# Altium footprint library chip.PcbLib: 2 footprints
Each footprint in its own frame and in the unit in brackets; x right, y up, seen from the top. Pads: shape width x height; smd on the part's side, far side on the other; paste and mask are expansions set on the pad; w line width, h text height; cw(c..) or ccw(c..) is an arc to the next point about the centre after c.
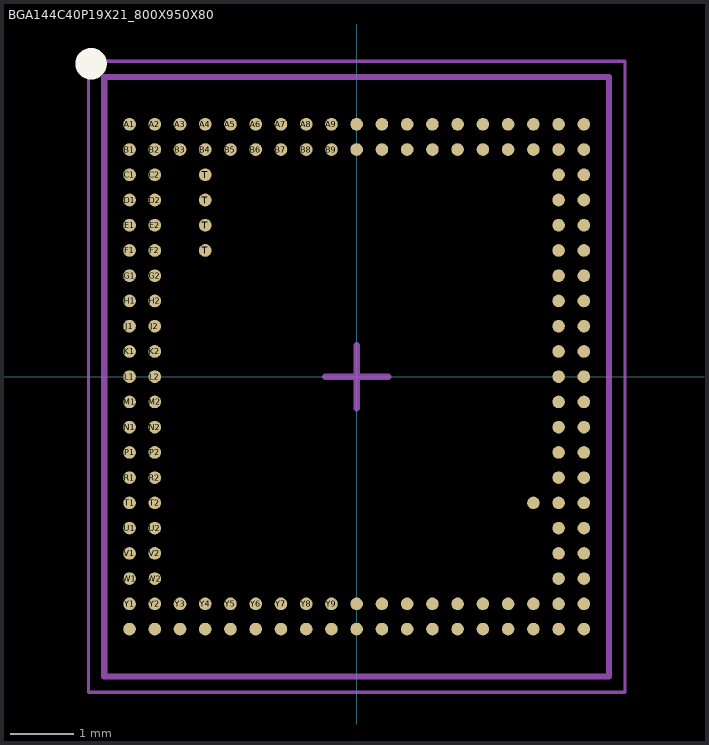
[diagram p0: the footprints below, top view; thin cyan lines are the x and y axes]

## 32EP16-M4FTC32-GA68 [mm]

## BGA144C40P19X21_800X950X80 [mm] "BGA, 144-Leads, Body 8.00x9.50mmx0.80mm, Pitch 0.40mm"
height 0.8
pads (149):
  round 0.2 smd: A1(-3.6,4) A2(-3.2,4) A3(-2.8,4) A4(-2.4,4) A5(-2,4) A6(-1.6,4) A7(-1.2,4) A8(-0.8,4) A9(-0.4,4) A10(0,4) A11(0.4,4) A12(0.8,4) A13(1.2,4) A14(1.6,4) A15(2,4) A16(2.4,4) A17(2.8,4) A18(3.2,4) A19(3.6,4) AA1(-3.6,-4) AA2(-3.2,-4) AA3(-2.8,-4) AA4(-2.4,-4) AA5(-2,-4) AA6(-1.6,-4) AA7(-1.2,-4) AA8(-0.8,-4) AA9(-0.4,-4) AA10(0,-4) AA11(0.4,-4) AA12(0.8,-4) AA13(1.2,-4) AA14(1.6,-4) AA15(2,-4) AA16(2.4,-4) AA17(2.8,-4) AA18(3.2,-4) AA19(3.6,-4) B1(-3.6,3.6) B2(-3.2,3.6) B3(-2.8,3.6) B4(-2.4,3.6) B5(-2,3.6) B6(-1.6,3.6) B7(-1.2,3.6) B8(-0.8,3.6) B9(-0.4,3.6) B10(0,3.6) B11(0.4,3.6) B12(0.8,3.6) B13(1.2,3.6) B14(1.6,3.6) B15(2,3.6) B16(2.4,3.6) B17(2.8,3.6) B18(3.2,3.6) B19(3.6,3.6) C1(-3.6,3.2) C2(-3.2,3.2) C18(3.2,3.2) C19(3.6,3.2) D1(-3.6,2.8) D2(-3.2,2.8) D18(3.2,2.8) D19(3.6,2.8) E1(-3.6,2.4) E2(-3.2,2.4) E18(3.2,2.4) E19(3.6,2.4) F1(-3.6,2) F2(-3.2,2) F18(3.2,2) F19(3.6,2) G1(-3.6,1.6) G2(-3.2,1.6) G18(3.2,1.6) G19(3.6,1.6) H1(-3.6,1.2) H2(-3.2,1.2) H18(3.2,1.2) H19(3.6,1.2) J1(-3.6,0.8) J2(-3.2,0.8) J18(3.2,0.8) J19(3.6,0.8) K1(-3.6,0.4) K2(-3.2,0.4) K18(3.2,0.4) K19(3.6,0.4) L1(-3.6,0) L2(-3.2,0) L18(3.2,0) L19(3.6,0) M1(-3.6,-0.4) M2(-3.2,-0.4) M18(3.2,-0.4) M19(3.6,-0.4) N1(-3.6,-0.8) N2(-3.2,-0.8) N18(3.2,-0.8) N19(3.6,-0.8) P1(-3.6,-1.2) P2(-3.2,-1.2) P18(3.2,-1.2) P19(3.6,-1.2) R1(-3.6,-1.6) R2(-3.2,-1.6) R18(3.2,-1.6) R19(3.6,-1.6) T(-2.4,2) T(-2.4,2.4) T(-2.4,2.8) T(-2.4,3.2) T1(-3.6,-2) T2(-3.2,-2) T18(2.8,-2) T18(3.2,-2) T19(3.6,-2) U1(-3.6,-2.4) U2(-3.2,-2.4) U18(3.2,-2.4) U19(3.6,-2.4) V1(-3.6,-2.8) V2(-3.2,-2.8) V18(3.2,-2.8) V19(3.6,-2.8) W1(-3.6,-3.2) W2(-3.2,-3.2) W18(3.2,-3.2) W19(3.6,-3.2) Y1(-3.6,-3.6) Y2(-3.2,-3.6) Y3(-2.8,-3.6) Y4(-2.4,-3.6) Y5(-2,-3.6) Y6(-1.6,-3.6) Y7(-1.2,-3.6) Y8(-0.8,-3.6) Y9(-0.4,-3.6) Y10(0,-3.6) Y11(0.4,-3.6) Y12(0.8,-3.6) Y13(1.2,-3.6) Y14(1.6,-3.6) Y15(2,-3.6) Y16(2.4,-3.6) Y17(2.8,-3.6) Y18(3.2,-3.6) Y19(3.6,-3.6)
Top Overlay:
  circle w0.25: c-4.21,4.96 r0.125
Mechanical 13:
  lines w0.1: -4,-4.75 -4,4.75 4,4.75 4,-4.75 -4,-4.75
Mechanical 15:
  lines w0.05: -4.25,-5 -4.25,5 4.25,5 4.25,-5 -4.25,-5
  lines w0.1: -0.5,0 0.5,0 ; 0,-0.5 0,0.5
3D body: height 0.8, standoff 0, extent -4,-4.75 4,4.75